# EAGLE library part M12 (library ohranyator)
QUECTEL M12 GSM MODULE
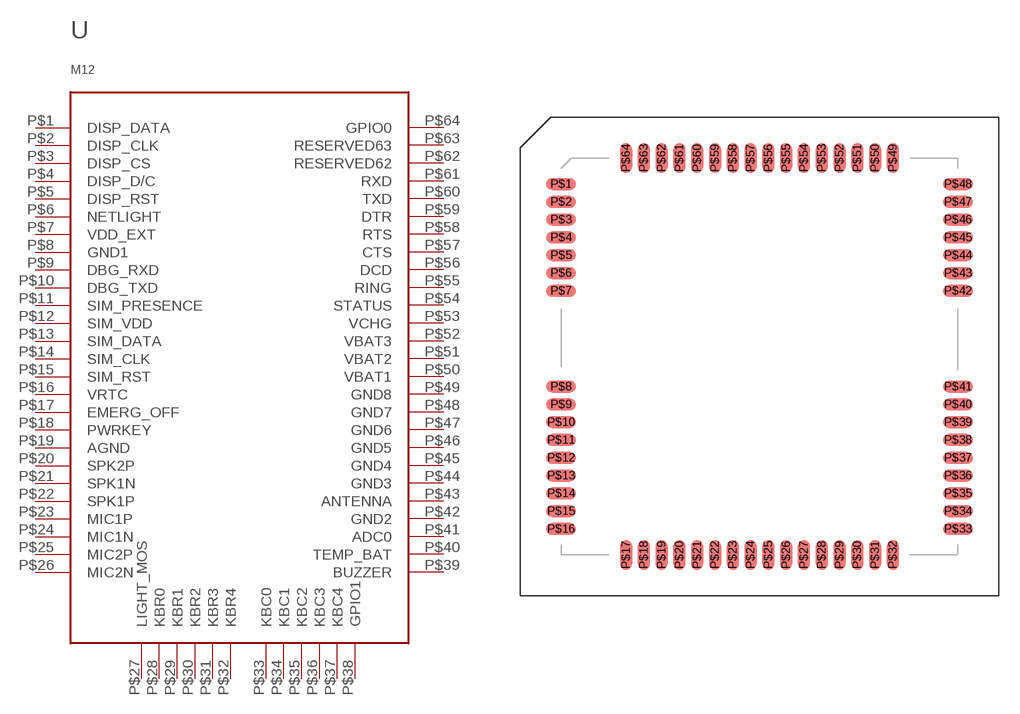
[diagram p1: symbol with the pads of M12; footprint M12]

Designator prefix -

## M12  [M12]
P$1  DISP_DATA
P$2  DISP_CLK
P$3  DISP_CS
P$4  DISP_D/C
P$5  DISP_RST
P$6  NETLIGHT
P$7  VDD_EXT  out
P$8  GND1
P$9  DBG_RXD
P$10  DBG_TXD
P$11  SIM_PRESENCE
P$12  SIM_VDD
P$13  SIM_DATA
P$14  SIM_CLK
P$15  SIM_RST
P$16  VRTC
P$17  EMERG_OFF
P$18  PWRKEY
P$19  AGND
P$20  SPK2P
P$21  SPK1N
P$22  SPK1P
P$23  MIC1P
P$24  MIC1N
P$25  MIC2P
P$26  MIC2N
P$27  LIGHT_MOS
P$28  KBR0
P$29  KBR1
P$30  KBR2
P$31  KBR3
P$32  KBR4
P$33  KBC0
P$34  KBC1
P$35  KBC2
P$36  KBC3
P$37  KBC4
P$38  GPIO1
P$39  BUZZER
P$40  TEMP_BAT
P$41  ADC0
P$42  GND2
P$43  ANTENNA
P$44  GND3
P$45  GND4
P$46  GND5
P$47  GND6
P$48  GND7
P$49  GND8
P$50  VBAT1
P$51  VBAT2
P$52  VBAT3
P$53  VCHG
P$54  STATUS
P$55  RING
P$56  DCD
P$57  CTS
P$58  RTS
P$59  DTR
P$60  TXD
P$61  RXD
P$62  RESERVED62
P$63  RESERVED63
P$64  GPIO0

## Footprint M12 (pad centres in mm)
smd 2.2 x 0.88: P$1 0,27.1; P$2 0,25.8; P$3 0,24.5; P$4 0,23.2; P$5 0,21.9; P$6 0,20.6; P$7 0,19.3; P$8 0,12.3; P$9 0,11; P$10 0,9.7; P$11 0,8.4; P$12 0,7.1; P$13 0,5.8; P$14 0,4.5; P$15 0,3.2; P$16 0,1.9; P$33 29,1.9; P$34 29,3.2; P$35 29,4.5; P$36 29,5.8; P$37 29,7.1; P$38 29,8.4; P$39 29,9.7; P$40 29,11; P$41 29,12.3; P$42 29,19.3; P$43 29,20.6; P$44 29,21.9; P$45 29,23.2; P$46 29,24.5; P$47 29,25.8; P$48 29,27.1
smd 0.88 x 2.2: P$17 4.75,0; P$18 6.05,0; P$19 7.35,0; P$20 8.65,0; P$21 9.95,0; P$22 11.25,0; P$23 12.55,0; P$24 13.85,0; P$25 15.15,0; P$26 16.45,0; P$27 17.75,0; P$28 19.05,0; P$29 20.35,0; P$30 21.65,0; P$31 22.95,0; P$32 24.25,0; P$49 24.25,29; P$50 22.95,29; P$51 21.65,29; P$52 20.35,29; P$53 19.05,29; P$54 17.75,29; P$55 16.45,29; P$56 15.15,29; P$57 13.85,29; P$58 12.55,29; P$59 11.25,29; P$60 9.95,29; P$61 8.65,29; P$62 7.35,29; P$63 6.05,29; P$64 4.75,29